# Altium footprint library PCB - LEADLESS - MISC - SKYWORKS MLPD-6 2X1.5MM.PCBLIB: 1 footprints
Each footprint in its own frame and in the unit in brackets; x right, y up, seen from the top. Pads: shape width x height; smd on the part's side, far side on the other; paste and mask are expansions set on the pad; w line width, h text height; cw(c..) or ccw(c..) is an arc to the next point about the centre after c.
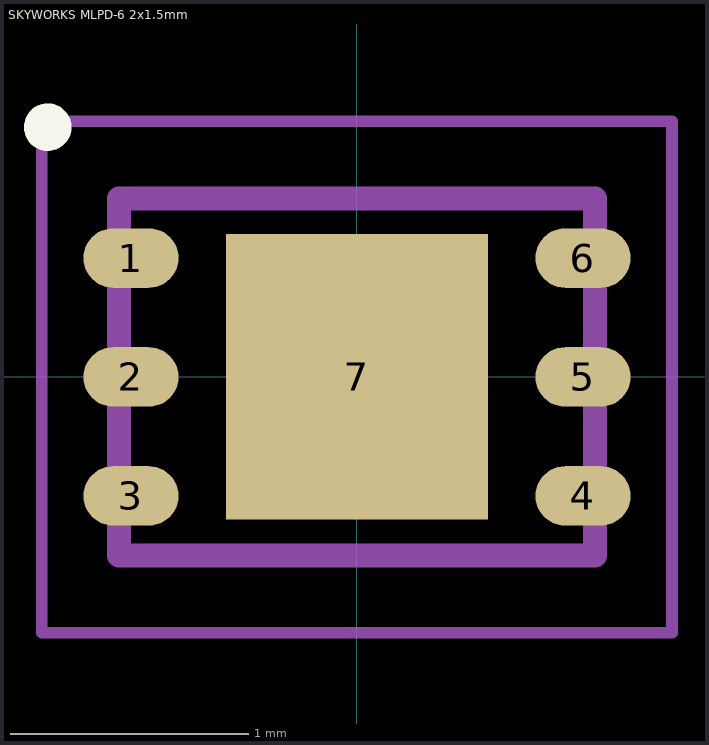
[diagram p0: the footprint, top view; thin cyan lines are the x and y axes]

## SKYWORKS MLPD-6 2x1.5mm [mm] "DFN, 6-Leads, Body 2.00x1.50mm, Pitch 0.50mm, Thermal Pad 1.10x1.20mm, IPC High Density"
height 0.5
pads (7):
  oval 0.4x0.25 smd: 1(-0.95,0.5) 2(-0.95,0) 3(-0.95,-0.5) 4(0.95,-0.5) 5(0.95,0) 6(0.95,0.5)
  rect 1.1x1.2 smd: 7(0,0)
Top Overlay:
  circle w0.1: c-1.3,1.05 r0.05
Mechanical 13:
  lines w0.1: -1,-0.75 -1,0.75 1,0.75 1,-0.75 -1,-0.75
Mechanical 15:
  lines w0.05: -1.325,-1.075 -1.325,1.075 1.325,1.075 1.325,-1.075 -1.325,-1.075
  lines w0.1: -0.5,0 0.5,0 ; 0,-0.5 0,0.5
3D body: height 0.5, standoff 0.01, extent -1,-0.75 1,0.75